# Altium schematic symbol library REB_3310.SCHLIB: 12 symbols
Pins are listed as number, name and electrical type; pins without a type are passive.

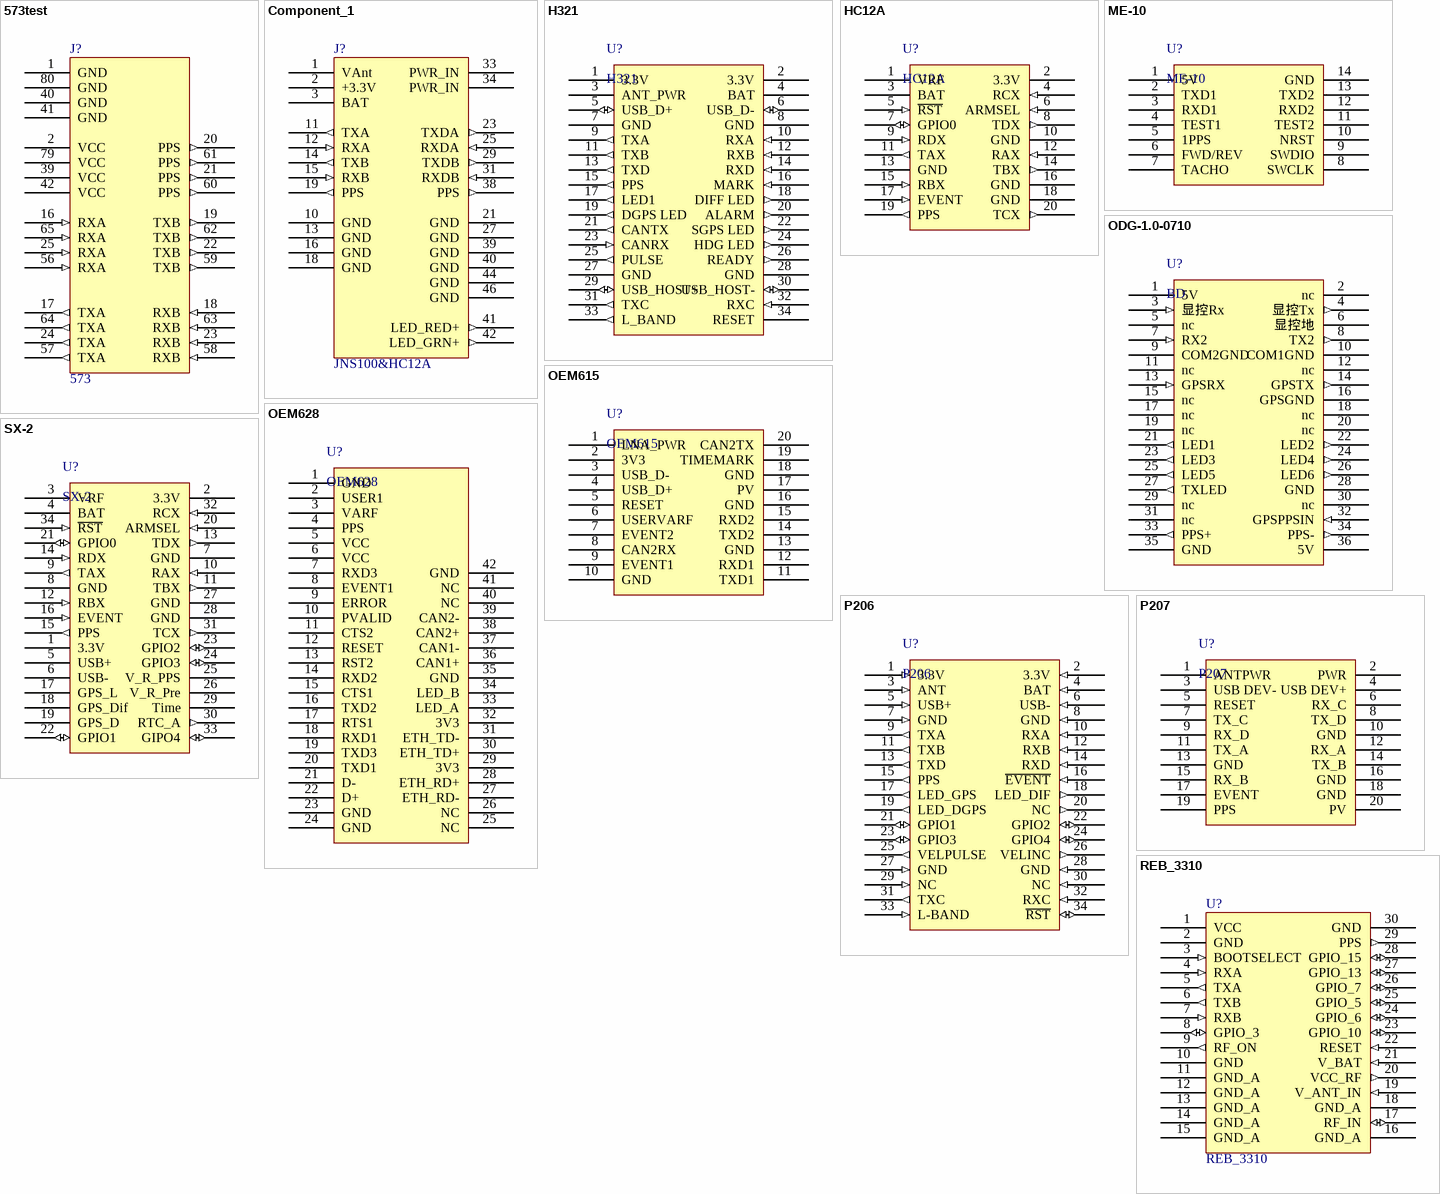
[diagram p0: symbols 573test to SX-2]

## 573test
designator J?, comment 573
For 573 board test
footprint 573Test (For 573 board test)
pins: 1 GND (power), 2 VCC (power), 16 RXA (in), 17 TXA (out), 18 RXB (in), 19 TXB (out), 20 PPS (out), 21 PPS (out), 22 TXB (out), 23 RXB (in), 24 TXA (out), 25 RXA (in), 39 VCC (power), 40 GND (power), 41 GND (power), 42 VCC (power), 56 RXA (in), 57 TXA (out), 58 RXB (in), 59 TXB (out), 60 PPS (out), 61 PPS (out), 62 TXB (out), 63 RXB (in), 64 TXA (out), 65 RXA (in), 79 VCC (power), 80 GND (power)

## Component_1
designator J?, comment JNS100&HC12A
footprint HC12A&JNS100
pins: 1 VAnt (power), 2 +3.3V (power), 3 BAT (power), 10 GND (power), 11 TXA (out), 12 RXA (in), 13 GND (power), 14 TXB (out), 15 RXB (in), 16 GND (power), 18 GND (power), 19 PPS (out), 21 GND (power), 23 TXDA (out), 25 RXDA (in), 27 GND (power), 29 TXDB (out), 31 RXDB (in), 33 PWR_IN (power), 34 PWR_IN (power), 38 PPS (out), 39 GND (power), 40 GND (power), 41 LED_RED+ (out), 42 LED_GRN+ (out), 44 GND (power), 46 GND (power)

## H321
designator U?
footprint H301
pins: 1 3.3V, 2 3.3V, 3 ANT_PWR, 4 BAT, 5 USB_D+ (io), 6 USB_D- (io), 7 GND, 8 GND, 9 TXA (out), 10 RXA (in), 11 TXB (out), 12 RXB (in), 13 TXD (out), 14 RXD (in), 15 PPS (out), 16 MARK (in), 17 LED1 (out), 18 DIFF LED (out), 19 DGPS LED (out), 20 ALARM (out), 21 CANTX (out), 22 SGPS LED (out), 23 CANRX (in), 24 HDG LED (out), 25 PULSE (out), 26 READY (out), 27 GND, 28 GND, 29 USB_HOST+ (io), 30 USB_HOST- (io), 31 TXC (out), 32 RXC (in), 33 L_BAND (out), 34 RESET (oc)

## HC12A
designator U?
GPS BOARD
footprint HC12A (GPS BOARD)
pins: 1 VRF (power), 2 3.3V (power), 3 BAT (power), 4 RCX (in), 5 ~{RST} (in), 6 ARMSEL (in), 7 GPIO0 (io), 8 TDX (out), 9 RDX (in), 10 GND (power), 11 TAX (out), 12 RAX (in), 13 GND (power), 14 TBX (out), 15 RBX (in), 16 GND (power), 17 EVENT (in), 18 GND (power), 19 PPS (out), 20 TCX (out)

## ME-10
designator U?
惯导
footprint ME-10 (惯导)
pins: 1 5V, 2 TXD1, 3 RXD1, 4 TEST1, 5 1PPS, 6 FWD/REV, 7 TACHO, 8 SWCLK, 9 SWDIO, 10 NRST, 11 TEST2, 12 RXD2, 13 TXD2, 14 GND

## ODG-1.0-0710
designator U?, comment BD
BD BOARD
footprint ODG-1.1-0710 (BD Board)
pins: 1 5V (power), 2 nc (power), 3 显控Rx (in), 4 显控Tx (out), 5 nc, 6 显控地 (power), 7 RX2 (in), 8 TX2 (out), 9 COM2GND (power), 10 COM1GND (power), 11 nc, 12 nc, 13 GPSRX (in), 14 GPSTX (out), 15 nc, 16 GPSGND (power), 17 nc, 18 nc, 19 nc, 20 nc, 21 LED1 (out), 22 LED2 (out), 23 LED3 (out), 24 LED4 (out), 25 LED5 (out), 26 LED6 (out), 27 TXLED (out), 28 GND (power), 29 nc, 30 nc, 31 nc, 32 GPSPPSIN (in), 33 PPS+ (out), 34 PPS- (out), 35 GND (power), 36 5V (power)

## OEM615
designator U?
footprint OEM615
pins: 1 LNA_PWR, 2 3V3, 3 USB_D-, 4 USB_D+, 5 RESET, 6 USERVARF, 7 EVENT2, 8 CAN2RX, 9 EVENT1, 10 GND, 11 TXD1, 12 RXD1, 13 GND, 14 TXD2, 15 RXD2, 16 GND, 17 PV, 18 GND, 19 TIMEMARK, 20 CAN2TX

## OEM628
designator U?
footprint OEM628
pins: 1 GND, 2 USER1, 3 VARF, 4 PPS, 5 VCC, 6 VCC, 7 RXD3, 8 EVENT1, 9 ERROR, 10 PVALID, 11 CTS2, 12 RESET, 13 RST2, 14 RXD2, 15 CTS1, 16 TXD2, 17 RTS1, 18 RXD1, 19 TXD3, 20 TXD1, 21 D-, 22 D+, 23 GND, 24 GND, 25 NC, 26 NC, 27 ETH_RD-, 28 ETH_RD+, 29 3V3, 30 ETH_TD+, 31 ETH_TD-, 32 3V3, 33 LED_A, 34 LED_B, 35 GND, 36 CAN1+, 37 CAN1-, 38 CAN2+, 39 CAN2-, 40 NC, 41 NC, 42 GND

## P206
designator U?
卫星接收机
footprint P206 (Hemisphere接收机)
pins: 1 3.3V (in), 2 3.3V (in), 3 ANT (in), 4 BAT (in), 5 USB+ (in), 6 USB- (in), 7 GND (in), 8 GND (in), 9 TXA (out), 10 RXA (in), 11 TXB (out), 12 RXB (in), 13 TXD (out), 14 RXD (in), 15 PPS (out), 16 ~{EVENT} (in), 17 LED_GPS (out), 18 LED_DIF (out), 19 LED_DGPS (out), 20 NC (out), 21 GPIO1 (io), 22 GPIO2 (io), 23 GPIO3 (io), 24 GPIO4 (io), 25 VELPULSE (out), 26 VELINC (out), 27 GND (in), 28 GND (in), 29 NC (in), 30 NC (in), 31 TXC (out), 32 RXC (in), 33 L-BAND (in), 34 ~{RST} (io)

## P207
designator U?
GNSS BOARD
footprint OEM615
pins: 1 ANTPWR, 2 PWR, 3 USB DEV-, 4 USB DEV+, 5 RESET, 6 RX_C, 7 TX_C, 8 TX_D, 9 RX_D, 10 GND, 11 TX_A, 12 RX_A, 13 GND, 14 TX_B, 15 RX_B, 16 GND, 17 EVENT, 18 GND, 19 PPS, 20 PV

## REB_3310
designator U?
footprint REB_3310
pins: 1 VCC (power), 2 GND (power), 3 BOOTSELECT (in), 4 RXA (in), 5 TXA (out), 6 TXB (out), 7 RXB (in), 8 GPIO_3 (io), 9 RF_ON (out), 10 GND (power), 11 GND_A (power), 12 GND_A (power), 13 GND_A (power), 14 GND_A (power), 15 GND_A (power), 16 GND_A (power), 17 RF_IN (io), 18 GND_A (power), 19 V_ANT_IN (in), 20 VCC_RF (out), 21 V_BAT (in), 22 RESET (in), 23 GPIO_10 (io), 24 GPIO_6 (io), 25 GPIO_5 (io), 26 GPIO_7 (io), 27 GPIO_13 (io), 28 GPIO_15 (io), 29 PPS (out), 30 GND (power)

## SX-2
designator U?
GPS Module
footprint SX-2 (GPS Module)
pins: 1 3.3V, 2 3.3V (power), 3 VRF (power), 4 BAT (power), 5 USB+, 6 USB-, 7 GND (power), 8 GND (power), 9 TAX (out), 10 RAX (in), 11 TBX (out), 12 RBX (in), 13 TDX (out), 14 RDX (in), 15 PPS (out), 16 EVENT (in), 17 GPS_L, 18 GPS_Dif, 19 GPS_D, 20 ARMSEL (in), 21 GPIO0 (io), 22 GPIO1 (io), 23 GPIO2 (io), 24 GPIO3 (io), 25 V_R_PPS, 26 V_R_Pre, 27 GND (power), 28 GND (power), 29 Time, 30 RTC_A (out), 31 TCX (out), 32 RCX (in), 33 GIPO4 (io), 34 ~{RST} (in)